# EAGLE library part RTC72412 (library fox-electronics)
Real Time Clock http://www.foxonline.com/72421.htm
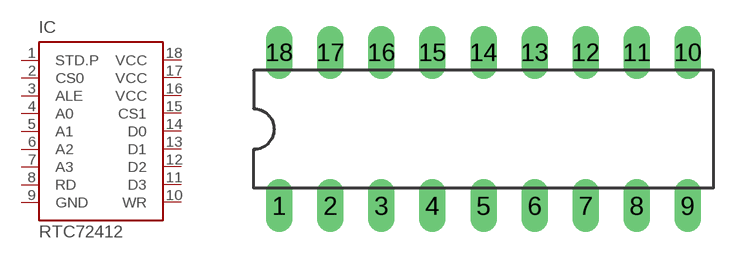
[diagram p0: symbol with the pads of DIL18; footprint DIL18]

Designator prefix IC

## RTC72412  [DIL18]
1  STD.P  in
2  CS0  in
3  ALE  in
4  A0  in
5  A1  in
6  A2  in
7  A3  in
8  RD  in
9  GND  pwr
10  WR  in
11  D3
12  D2
13  D1
14  D0
15  CS1  in
16  VCC  pwr
17  VCC  pwr
18  VCC  pwr

## Footprint DIL18 (pad centres in mm)
Dual In Line Package
drill 0.813 long: 1 -10.16,-3.81; 2 -7.62,-3.81; 3 -5.08,-3.81; 4 -2.54,-3.81; 5 0,-3.81; 6 2.54,-3.81; 7 5.08,-3.81; 8 7.62,-3.81; 9 10.16,-3.81; 10 10.16,3.81; 11 7.62,3.81; 12 5.08,3.81; 13 2.54,3.81; 14 0,3.81; 15 -2.54,3.81; 16 -5.08,3.81; 17 -7.62,3.81; 18 -10.16,3.81